# EAGLE library part ISO7240*F? (library _hhn_AMC1100_ISO7240_ADS130)
ISO7240…F High Speed Quad Digital Isolators Package: SOIC-16 300mil (TI-postfix "DW") ISO7240x: 4-channel with enable ISO7240xF: 4-channel with disable and fault-control ISO7241: 3+1 channel with enables ISO7242: 2+2 channel with enables x = ./. (Generic); C (TTL input thresholds); M (CMOS input thresholds) Author: Dipl.-Ing. FH Rainer Bayer Hochschule Heilbronn: http://www.hochschule-heilbronn.de/rainer.bayer <http://www.hs-heilbronn.de/rainer.bayer> – rainer.bayer@hs-heilbronn.de Ingenieurbüro ing-rb: http://www.ing-rb.de/ – eagle@ing-rb.de Dozent dozent-rb: http://www.dozent-rb.de/ – eagle@dozent-rb.de
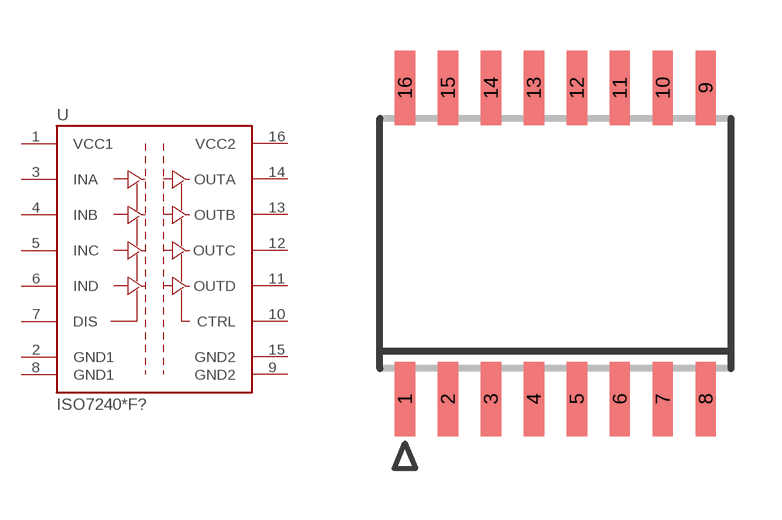
[diagram p4: symbol with the pads of SO-16DW; footprint SO-16DW]

Designator prefix U

## ISO7240CFDW, ISO7240_FDW  [SO-16DW]
1  VCC1  pwr
2  GND1  pwr
3  INA  pas
4  INB  pas
5  INC  pas
6  IND  pas
7  DIS  pas
8  GND1  pwr
9  GND2  pwr
10  CTRL  pas
11  OUTD  hiz
12  OUTC  hiz
13  OUTB  hiz
14  OUTA  hiz
15  GND2  pwr
16  VCC2  pwr

## Footprint SO-16DW (pad centres in mm)
SOIC 16 – Small Outline IC – wide (300mil) TI-Postfix DW (R-PDSO-G16)
smd 0.6 x 2.2: 1 -4.445,-4.6; 2 -3.175,-4.6; 3 -1.905,-4.6; 4 -0.635,-4.6; 5 0.635,-4.6; 6 1.905,-4.6; 7 3.175,-4.6; 8 4.445,-4.6; 9 4.445,4.6; 10 3.175,4.6; 11 1.905,4.6; 12 0.635,4.6; 13 -0.635,4.6; 14 -1.905,4.6; 15 -3.175,4.6; 16 -4.445,4.6